# EAGLE library part PIN10 (library 0_HTL_uC-MEGACARD)
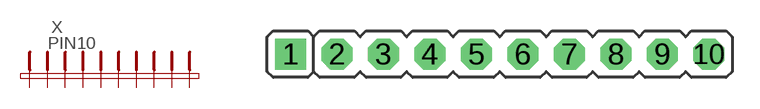
[diagram p14: symbol with the pads of PIN10; footprint PIN10]

Designator prefix X

## PIN10  [PIN10]
1  1  pas
2  2  pas
3  3  pas
4  4  pas
5  5  pas
6  6  pas
7  7  pas
8  8  pas
9  9  pas
10  10  pas

## Footprint PIN10 (pad centres in mm)
drill 1 pad 1.676 square: 1 -7.62,0
drill 1 pad 1.676 octagon: 2 -5.08,0; 3 -2.54,0; 4 0,0; 5 2.54,0; 6 5.08,0; 7 7.62,0; 8 10.16,0; 9 12.7,0; 10 15.24,0